# Altium schematic symbol library PMD3001D.SchLib: 1 symbol
Pins are listed as number, name and electrical type; pins without a type are passive.

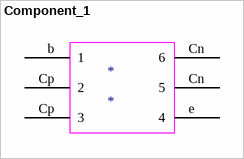
[diagram p0: symbol Component_1]

## Component_1
designator *
pins: b 1, Cn 6, Cn 5, Cp 2, Cp 3, e 4